# Altium schematic symbol library General IC.SchLib: 14 symbols
Pins are listed as number, name and electrical type; pins without a type are passive.

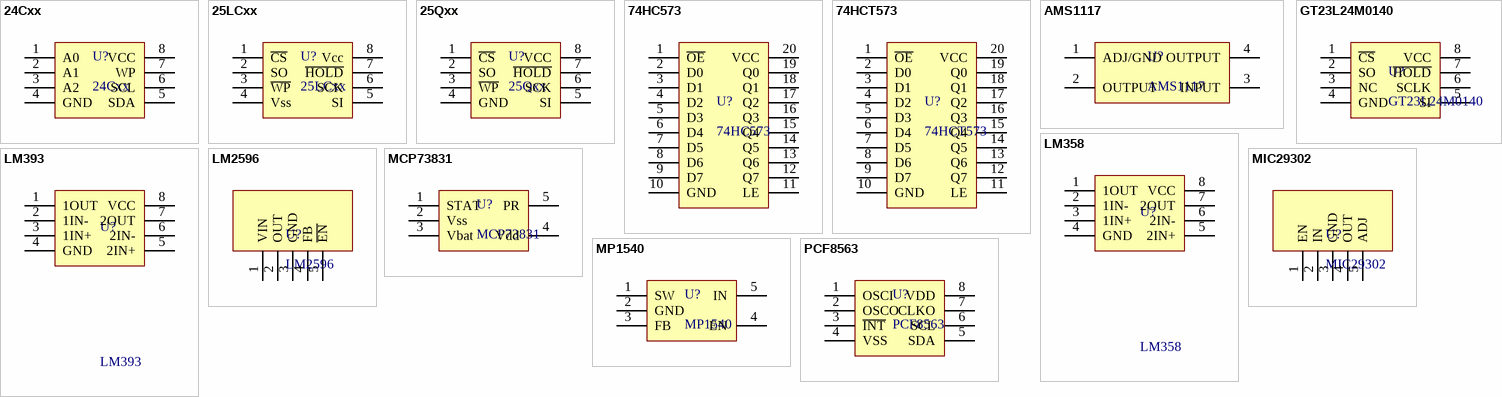
[diagram p0: symbols 24Cxx to PCF8563]

## 24Cxx
designator U?
Two-wire Serial Electrically Erasable and Programmable Read-only Memory
footprint SOP-8-3.9x4.9-IPC (SOP, 8-Leads, Body 4.90x3.90mm, Pitch 1.27mm, IPC Medium Density)
pins: 1 A0, 2 A1, 3 A2, 4 GND, 5 SDA, 6 SCL, 7 WP, 8 VCC

## 25LCxx
designator U?
SPI  Bus Serial EEPROM
footprint SOP-8-3.9x4.9-IPC (SOP, 8-Leads, Body 4.90x3.90mm, Pitch 1.27mm, IPC Medium Density)
pins: 1 ~{CS}, 2 SO, 3 ~{WP}, 4 Vss, 5 SI, 6 SCK, 7 ~{HOLD}, 8 Vcc

## 25Qxx
designator U?
SPI  Bus Serial Flash
footprint SOP-8-5.28x5.28-IPC (SOP, 8-Leads, Body 5.28x5.28mm, Pitch 1.27mm, IPC Medium Density)
pins: 1 ~{CS}, 2 SO, 3 ~{WP}, 4 GND, 5 SI, 6 SCK, 7 ~{HOLD}, 8 VCC

## 74HC573
designator U?
Octal D-type transparent latch; 3-state; CMOS
footprint TSSOP-20-4.4x6.5-IPC (TSSOP, 20-Leads, Body 6.50x4.40mm, Pitch 0.65mm, IPC Medium Density)
footprint SSOP-20-5.3x7.2-IPC (SSOP, 20-Leads, Body 7.20x5.30mm, Pitch 0.65mm, IPC Medium Density)
pins: 1 ~{OE}, 2 D0, 3 D1, 4 D2, 5 D3, 6 D4, 7 D5, 8 D6, 9 D7, 10 GND, 11 LE, 12 Q7, 13 Q6, 14 Q5, 15 Q4, 16 Q3, 17 Q2, 18 Q1, 19 Q0, 20 VCC

## 74HCT573
designator U?
Octal D-type transparent latch; 3-state; TTL
footprint SSOP-20-5.3x7.2-IPC (SSOP, 20-Leads, Body 7.20x5.30mm, Pitch 0.65mm, IPC Medium Density)
footprint TSSOP-20-4.4x6.5-IPC (TSSOP, 20-Leads, Body 6.50x4.40mm, Pitch 0.65mm, IPC Medium Density)
pins: 1 ~{OE}, 2 D0, 3 D1, 4 D2, 5 D3, 6 D4, 7 D5, 8 D6, 9 D7, 10 GND, 11 LE, 12 Q7, 13 Q6, 14 Q5, 15 Q4, 16 Q3, 17 Q2, 18 Q1, 19 Q0, 20 VCC

## AMS1117
designator U?
800mA Low-Dropout Linear Regulator
footprint SOT223-4-IPC (SOT223, 4-Leads, Body 6.50x7.00mm (avg), Pitch 2.30mm, IPC Medium Density)
pins: 1 ADJ/GND, 2 OUTPUT, 3 INPUT, 4 OUTPUT

## GT23L24M0140
designator U?
12x12, 16x16, 24x24 Chinese Font Library, GB18030 Standard
footprint SOP-8-5.28x5.28-IPC (SOP, 8-Leads, Body 5.28x5.28mm, Pitch 1.27mm, IPC Medium Density)
pins: 1 ~{CS}, 2 SO, 3 NC, 4 GND, 5 SI, 6 SCLK, 7 ~{HOLD}, 8 VCC

## LM358
designator U?
LM158/LM258/LM358/LM2904 Low Power Dual Operational Amplifiers
footprint SOP-8-3.9x4.9-IPC (SOP, 8-Leads, Body 4.90x3.90mm, Pitch 1.27mm, IPC Medium Density)
footprint TSSOP-8-3x4.4-IPC (TSSOP, 8-Leads, Body 3.00x4.40mm, Pitch 0.65mm, IPC Medium Density)
pins: 1 1OUT, 2 1IN-, 3 1IN+, 4 GND, 5 2IN+, 6 2IN-, 7 2OUT, 8 VCC

## LM393
designator U?
LM193/LM293/LM393/LM2903 Low Power Low Offset Voltage Dual Comparators
footprint SOP-8-3.9x4.9-IPC (SOP, 8-Leads, Body 4.90x3.90mm, Pitch 1.27mm, IPC Medium Density)
footprint TSSOP-8-3x4.4-IPC (TSSOP, 8-Leads, Body 3.00x4.40mm, Pitch 0.65mm, IPC Medium Density)
pins: 1 1OUT, 2 1IN-, 3 1IN+, 4 GND, 5 2IN+, 6 2IN-, 7 2OUT, 8 VCC

## LM2596
designator U?
150khZ 3A Step-Down Voltage Regulator
footprint TO-263-5-IPC (D2-PAK, 6-Pads, Body 7.69x8.69mm (max), IPC Medium Density)
pins: 1 VIN, 2 OUT, 3 GND, 4 FB, 5 ~{EN}

## MCP73831
designator U?
Miniature Single-Cell, Fully Integrated Li-Ion, Li-Polymer Charge Management Controllers
footprint SOT23-5-IPC (SOT23, 5-Leads, Body 2.90x2.80mm, Pitch 0.95mm, IPC Medium Density)
pins: 1 STAT, 2 Vss, 3 Vbat, 4 Vdd, 5 PR

## MIC29302
designator U?
High-Current Low-Dropout Regulators
footprint TO-263-5-IPC (D2-PAK, 6-Pads, Body 7.69x8.69mm (max), IPC Medium Density)
pins: 1 EN, 2 IN, 3 GND, 4 OUT, 5 ADJ

## MP1540
designator U?
1.3MHz, 18V Step-Up Converter
footprint SOT23-5-IPC (SOT23, 5-Leads, Body 2.90x2.80mm, Pitch 0.95mm, IPC Medium Density)
pins: 1 SW, 2 GND, 3 FB, 4 EN, 5 IN

## PCF8563
designator U?
Real-time clock/calendar
footprint SOP-8-3.9x4.9-IPC (SOP, 8-Leads, Body 4.90x3.90mm, Pitch 1.27mm, IPC Medium Density)
pins: 1 OSCI, 2 OSCO, 3 ~{INT}, 4 VSS, 5 SDA, 6 SCL, 7 CLKO, 8 VDD